# Altium schematic symbol library MB1355C_1.SCHLIB: 86 symbols
Pins are listed as number, name and electrical type; pins without a type are passive.

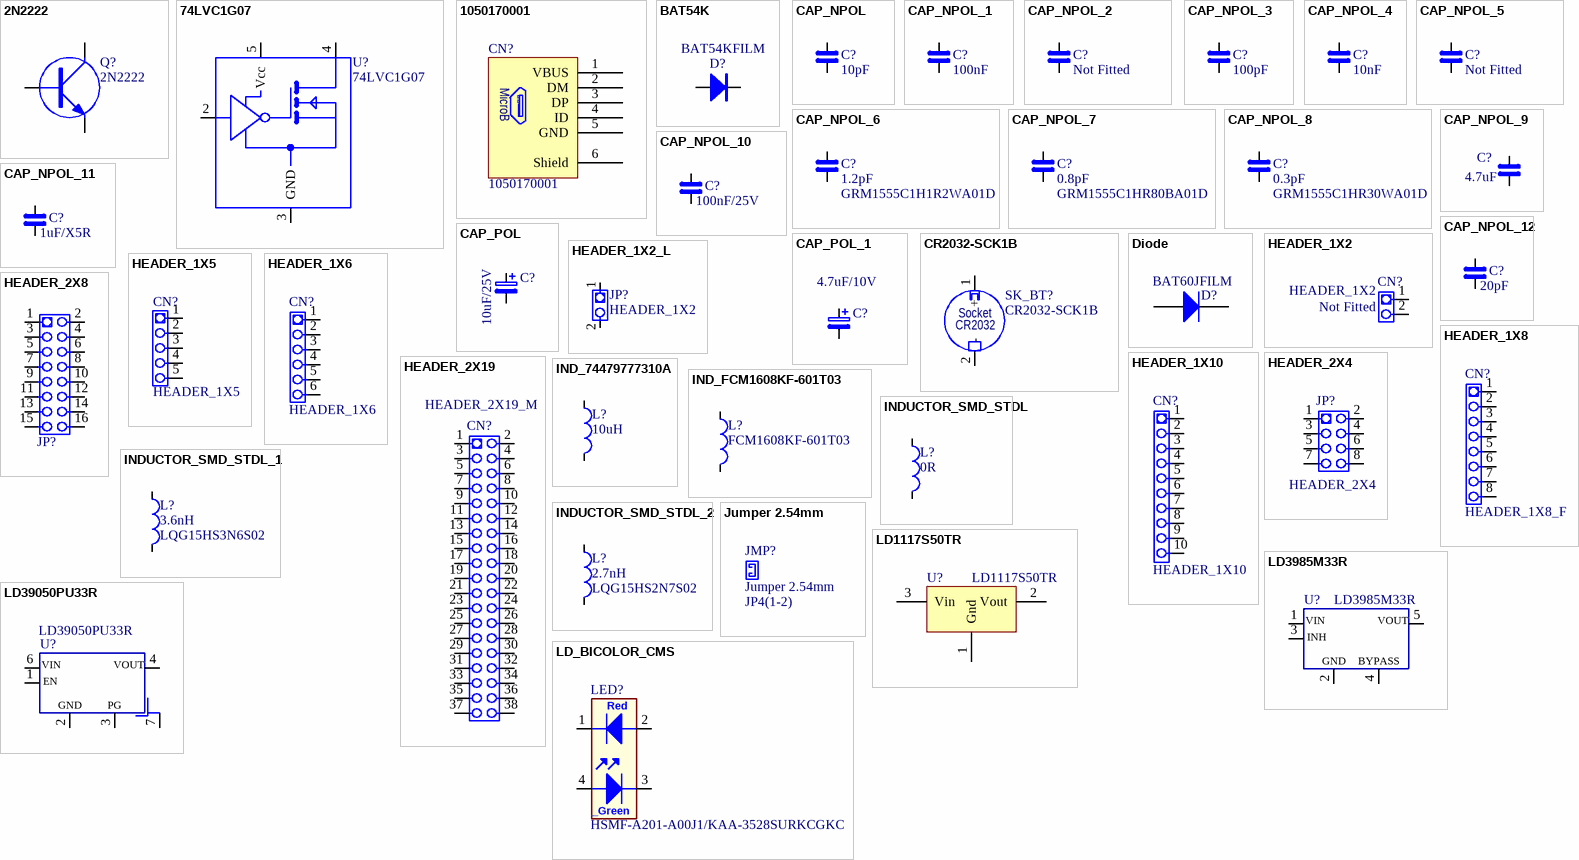
[diagram p0: symbols 2N2222 to LD_BICOLOR_CMS]

## 2N2222
designator Q?
2N2222_SOT23
footprint SOT23-3
pins: 1 B, 2 E, 3 C

## 74LVC1G07
designator U?
footprint SOT353-1 (SOT353-1 5 pins package)
pins: 2 A, 3 GND, 4 Y, 5 Vcc

## 1050170001
designator CN?
USB-MICRO-B, 1050170001, SMT, MOLEX; Fitted: YES; Ordered_By: Subcon; ECCN_US/EU: n/a; Manuf_1: MOLEX; Manuf_Part_1: 1050170001; Distrib: DIGIKEY; Value: 1050170001; Order_Code: *
footprint USBMICROB_MOLEX_105017-0001_H2P90
pins: 1 VBUS, 2 DM, 3 DP, 4 ID, 5 GND, 6 Shield
text: MicroB

## BAT54K
designator D?, comment BAT54KFILM
Schottky Diode
footprint SOD523
pins: A, K

## CAP_NPOL
designator C?, comment 10pF
Capacitor_not polarized
footprint CAP_RAD_5.08_2.5x7 (Radial Capacitor 2steps(5.08mm) 2.5mm x 7mm)
footprint CAP_RAD_2.54_1.5x4.5 (Radial Capacitor 1steps(2.54mm) 1.5mm x 4.5mm)
footprint 0402_CAP_NPOL (Capacitor FootPrint 0402)
footprint 0603_CAP_NPOL (Capacitor FootPrint 0603)
footprint 0805_CAP_NPOL (Capacitor FootPrint 0805)
footprint 1206_CAP_NPOL (Capacitor FootPrint 1206)
pins: 1, 2

## CAP_NPOL_1
designator C?, comment 100nF
Capacitor_not polarized
footprint CAP_RAD_5.08_2.5x7 (Radial Capacitor 2steps(5.08mm) 2.5mm x 7mm)
footprint CAP_RAD_2.54_1.5x4.5 (Radial Capacitor 1steps(2.54mm) 1.5mm x 4.5mm)
footprint 0402_CAP_NPOL (Capacitor FootPrint 0402)
footprint 0603_CAP_NPOL (Capacitor FootPrint 0603)
footprint 0805_CAP_NPOL (Capacitor FootPrint 0805)
footprint 1206_CAP_NPOL (Capacitor FootPrint 1206)
pins: 1, 2

## CAP_NPOL_2
designator C?, comment Fitted: Not Fitted  (hidden comment: TBD)
Capacitor_not polarized
footprint CAP_RAD_5.08_2.5x7 (Radial Capacitor 2steps(5.08mm) 2.5mm x 7mm)
footprint CAP_RAD_2.54_1.5x4.5 (Radial Capacitor 1steps(2.54mm) 1.5mm x 4.5mm)
footprint 0402_CAP_NPOL (Capacitor FootPrint 0402)
footprint 0603_CAP_NPOL (Capacitor FootPrint 0603)
footprint 0805_CAP_NPOL (Capacitor FootPrint 0805)
footprint 1206_CAP_NPOL (Capacitor FootPrint 1206)
pins: 1, 2

## CAP_NPOL_3
designator C?, comment 100pF
Capacitor_not polarized
footprint CAP_RAD_5.08_2.5x7 (Radial Capacitor 2steps(5.08mm) 2.5mm x 7mm)
footprint CAP_RAD_2.54_1.5x4.5 (Radial Capacitor 1steps(2.54mm) 1.5mm x 4.5mm)
footprint 0402_CAP_NPOL (Capacitor FootPrint 0402)
footprint 0603_CAP_NPOL (Capacitor FootPrint 0603)
footprint 0805_CAP_NPOL (Capacitor FootPrint 0805)
footprint 1206_CAP_NPOL (Capacitor FootPrint 1206)
pins: 1, 2

## CAP_NPOL_4
designator C?, comment 10nF
Capacitor_not polarized; Ref: Murata GRM155R71H103KA88
footprint CAP_RAD_5.08_2.5x7 (Radial Capacitor 2steps(5.08mm) 2.5mm x 7mm)
footprint CAP_RAD_2.54_1.5x4.5 (Radial Capacitor 1steps(2.54mm) 1.5mm x 4.5mm)
footprint 0402_CAP_NPOL (Capacitor FootPrint 0402)
footprint 0603_CAP_NPOL (Capacitor FootPrint 0603)
footprint 0805_CAP_NPOL (Capacitor FootPrint 0805)
footprint 1206_CAP_NPOL (Capacitor FootPrint 1206)
pins: 1, 2

## CAP_NPOL_5
designator C?  Fitted: Not Fitted
Capacitor_not polarized
footprint CAP_RAD_5.08_2.5x7 (Radial Capacitor 2steps(5.08mm) 2.5mm x 7mm)
footprint CAP_RAD_2.54_1.5x4.5 (Radial Capacitor 1steps(2.54mm) 1.5mm x 4.5mm)
footprint 0402_CAP_NPOL (Capacitor FootPrint 0402)
footprint 0603_CAP_NPOL (Capacitor FootPrint 0603)
footprint 0805_CAP_NPOL (Capacitor FootPrint 0805)
footprint 1206_CAP_NPOL (Capacitor FootPrint 1206)
pins: 1, 2

## CAP_NPOL_6
designator C?, comment 1.2pF  Ref: GRM1555C1H1R2WA01D
Capacitor_not polarized; Fitted: Fitted
footprint CAP_RAD_5.08_2.5x7 (Radial Capacitor 2steps(5.08mm) 2.5mm x 7mm)
footprint CAP_RAD_2.54_1.5x4.5 (Radial Capacitor 1steps(2.54mm) 1.5mm x 4.5mm)
footprint 0402_CAP_NPOL (Capacitor FootPrint 0402)
footprint 0603_CAP_NPOL (Capacitor FootPrint 0603)
footprint 0805_CAP_NPOL (Capacitor FootPrint 0805)
footprint 1206_CAP_NPOL (Capacitor FootPrint 1206)
pins: 1, 2

## CAP_NPOL_7
designator C?, comment 0.8pF  REF: GRM1555C1HR80BA01D
Capacitor_not polarized
footprint CAP_RAD_5.08_2.5x7 (Radial Capacitor 2steps(5.08mm) 2.5mm x 7mm)
footprint CAP_RAD_2.54_1.5x4.5 (Radial Capacitor 1steps(2.54mm) 1.5mm x 4.5mm)
footprint 0402_CAP_NPOL (Capacitor FootPrint 0402)
footprint 0603_CAP_NPOL (Capacitor FootPrint 0603)
footprint 0805_CAP_NPOL (Capacitor FootPrint 0805)
footprint 1206_CAP_NPOL (Capacitor FootPrint 1206)
pins: 1, 2

## CAP_NPOL_8
designator C?, comment 0.3pF  REF: GRM1555C1HR30WA01D
Capacitor_not polarized
footprint CAP_RAD_5.08_2.5x7 (Radial Capacitor 2steps(5.08mm) 2.5mm x 7mm)
footprint CAP_RAD_2.54_1.5x4.5 (Radial Capacitor 1steps(2.54mm) 1.5mm x 4.5mm)
footprint 0402_CAP_NPOL (Capacitor FootPrint 0402)
footprint 0603_CAP_NPOL (Capacitor FootPrint 0603)
footprint 0805_CAP_NPOL (Capacitor FootPrint 0805)
footprint 1206_CAP_NPOL (Capacitor FootPrint 1206)
pins: 1, 2

## CAP_NPOL_9
designator C?, comment 4.7uF
Capacitor_not polarized
footprint CAP_RAD_5.08_2.5x7 (Radial Capacitor 2steps(5.08mm) 2.5mm x 7mm)
footprint CAP_RAD_2.54_1.5x4.5 (Radial Capacitor 1steps(2.54mm) 1.5mm x 4.5mm)
footprint 0402_CAP_NPOL (Capacitor FootPrint 0402)
footprint 0603_CAP_NPOL (Capacitor FootPrint 0603)
footprint 0805_CAP_NPOL (Capacitor FootPrint 0805)
footprint 1206_CAP_NPOL (Capacitor FootPrint 1206)
pins: 1, 2

## CAP_NPOL_10
designator C?, comment 100nF/25V
Capacitor_not polarized
footprint CAP_RAD_5.08_2.5x7 (Radial Capacitor 2steps(5.08mm) 2.5mm x 7mm)
footprint CAP_RAD_2.54_1.5x4.5 (Radial Capacitor 1steps(2.54mm) 1.5mm x 4.5mm)
footprint 0402_CAP_NPOL (Capacitor FootPrint 0402)
footprint 0603_CAP_NPOL (Capacitor FootPrint 0603)
footprint 0805_CAP_NPOL (Capacitor FootPrint 0805)
footprint 1206_CAP_NPOL (Capacitor FootPrint 1206)
pins: 1, 2

## CAP_NPOL_11
designator C?, comment 1uF/X5R
Capacitor_not polarized
footprint CAP_RAD_5.08_2.5x7 (Radial Capacitor 2steps(5.08mm) 2.5mm x 7mm)
footprint CAP_RAD_2.54_1.5x4.5 (Radial Capacitor 1steps(2.54mm) 1.5mm x 4.5mm)
footprint 0402_CAP_NPOL (Capacitor FootPrint 0402)
footprint 0603_CAP_NPOL (Capacitor FootPrint 0603)
footprint 0805_CAP_NPOL (Capacitor FootPrint 0805)
footprint 1206_CAP_NPOL (Capacitor FootPrint 1206)
pins: 1, 2

## CAP_NPOL_12
designator C?, comment 20pF
Capacitor_not polarized
footprint CAP_RAD_5.08_2.5x7 (Radial Capacitor 2steps(5.08mm) 2.5mm x 7mm)
footprint CAP_RAD_2.54_1.5x4.5 (Radial Capacitor 1steps(2.54mm) 1.5mm x 4.5mm)
footprint 0402_CAP_NPOL (Capacitor FootPrint 0402)
footprint 0603_CAP_NPOL (Capacitor FootPrint 0603)
footprint 0805_CAP_NPOL (Capacitor FootPrint 0805)
footprint 1206_CAP_NPOL (Capacitor FootPrint 1206)
pins: 1, 2

## CAP_POL
designator C?, comment 10uF/25V
Condensateur_polarise
footprint 1210_CAP_POL (Capacitor Polarized 1210)
pins: 1, 2

## CAP_POL_1
designator C?, comment 4.7uF/10V
Condensateur_polarise
footprint 1210_CAP_POL (Capacitor Polarized 1210)
pins: 1, 2

## CR2032-SCK1B
designator SK_BT?
footprint CR2032-SCK1
pins: 1 +, 2 -
text: Socket; CR2032

## Diode
designator D?, comment BAT60JFILM
Default Diode; Code - JEDEC: DO-214-AB; Ordered by: STM; ECCN_US/EU: EAR99/NEC; Published: 8-Jun-2000; Revision: July-2002: Re-released for DXP Platform.; Publisher: Altium Limited
footprint DSO-C2/X3.3 (DO-214-AB/SMC; 2 C-Bend Leads; Body 7.9 x 5.9 mm, inc. leads (LxW))
simulation model DIODE (Diode)
signal-integrity model Diode
footprint SOD-323
pins: 1 A, 2 K

## HEADER_1X2
designator CN?  Fitted: Not Fitted
footprint Header M 1x2x2.54 TH V (1x2x2.54 Header TH V Male)
footprint Header F 1x2x2.54 TH V (1x2x2.54 Header TH V Female)
footprint Header M/F 1x2x1.27 NF (1x2x1.27 Male or Female Not Fitted only Footprint)
footprint Header F 1x2x2.00 TH V (1x2x2.00 Header TH V Male height=5.5mm)
footprint Header F 1x2x2.00 TH V with Jumper (1x2x2.00 Header TH V Male height=5.5mm)
footprint Header NF 1x2x2.54 TH (1x2x2.54 Header TH Not Fitted)
pins: 1, 2

## HEADER_1X2_L
designator JP?, comment HEADER_1X2
footprint Header F 1x2x2.54 TH V (1x2x2.54 Header TH V Female)
footprint Header M 1x2x2.54 TH V (1x2x2.54 Header TH V Male)
footprint Header F 1x2x2.00 TH V (1x2x2.00 Header TH V Male height=5.5mm)
footprint Header F 1x2x2.00 TH V with Jumper (1x2x2.00 Header TH V Male height=5.5mm)
footprint Header NF 1x2x2.54 TH (1x2x2.54 Header TH Not Fitted)
pins: 1, 2

## HEADER_1X5
designator CN?
footprint Header F 1x5x2.54 TH V (1x5x2.54 Header TH V Female)
footprint Header M 1x5x2.54 TH V (1x5x2.54 Header TH V Male)
footprint Header F_Tulipe 1x5x2.54 TH V (1x5x2.54 Header TH V Female Tulipe)
footprint Header M/F 1x5x1.27 NF (1x5x1.27 Male or Female Not Fitted only Footprint)
footprint Header NF 1x5x2.54 TH (1x5x2.54 Header TH Not Fitted)
pins: 1, 2, 3, 4, 5

## HEADER_1X6
designator CN?
footprint Header F 1x6x2.54 TH V (1x6x2.54 Header TH V Female)
footprint Header M 1x6x2.54 TH V (1x6x2.54 Header TH V Male)
footprint Header NF 1x6x2.54 TH (1x6x2.54 Header TH Not Fitted)
footprint Header M 1x6x2.54 TH C (1x6x2.54 Header TH Male Coude)
pins: 1, 2, 3, 4, 5, 6

## HEADER_1X8
designator CN?, comment HEADER_1X8_F
Specific Function: Arduino Power
footprint Header F 1x8x2.54 TH V (1x8x2.54 Header TH V Female)
footprint Header M 1x8x2.54 TH V (1x8x2.54 Header TH V Male)
footprint Header M/F 1x8x1.27 NF (1x8x1.27 Male or Female Not Fitted only Footprint)
footprint Header M 1x8x1.27 TH V (1x8x1.27 Male TH Vertical  (Samtec TMS-107-01-L-S))
pins: 1, 2, 3, 4, 5, 6, 7, 8

## HEADER_1X10
designator CN?
footprint Header F 1x10x2.54 TH V (1x10x2.54 Header TH V Female)
footprint Header M 1x10x2.54 TH V (1x10x2.54 Header TH V Male)
footprint Header M/F 1x10x2.54 NF (1x10x2.54 Header Not Fitted)
pins: 1, 2, 3, 4, 5, 6, 7, 8, 9, 10

## HEADER_2X4
designator JP?
footprint Header F 2x4x2.54 TH V (2x4x2.54 Header TH V Female)
footprint Header M 2x4x2.54 TH V (2x4x2.54 Header TH V Male)
pins: 1, 2, 3, 4, 5, 6, 7, 8

## HEADER_2X8
designator JP?  (value not drawn)
footprint Header F 2x8x2.54 TH V (2x8x2.54 Header TH V Female)
footprint Header M 2x8x2.54 TH V (2x8x2.54 Header TH V Male)
pins: 1, 2, 3, 4, 5, 6, 7, 8, 9, 10, 11, 12, 13, 14, 15, 16

## HEADER_2X19
designator CN?, comment HEADER_2X19_M
Specific Function: Morpho CN7
footprint Header F 2x19x2.54 TH V (2x19x2.54 Header TH V Female)
footprint Header M 2x19x2.54 TH M_top + M_bottom (2x19x2.54 Header TH V MaleTop + MaleBottom (Morphos_Nucleo64))
pins: 1, 2, 3, 4, 5, 6, 7, 8, 9, 10, 11, 12, 13, 14, 15, 16, 17, 18, 19, 20, 21, 22, 23, 24, 25, 26, 27, 28, 29, 30, 31, 32, 33, 34, 35, 36, 37, 38

## IND_74479777310A
designator L?, comment 10uH
Coil Wurtz 10uH ref: 74479777310A
footprint 0805_COIL (Coil FootPrint 0805)
pins: 1, 2

## IND_FCM1608KF-601T03
designator L?, comment FCM1608KF-601T03
footprint 0603_COIL (Coil Footprint 0603)
pins: 1, 2

## INDUCTOR_SMD_STDL
designator L?, comment 0R
footprint 0402_COIL (Coil FootPrint 0402)
footprint 0603_COIL (Coil Footprint 0603)
footprint 0805_COIL (Coil FootPrint 0805)
footprint 1206_COIL (Coil FootPrint 1206)
pins: 1, 2

## INDUCTOR_SMD_STDL_1
designator L?, comment 3.6nH  Ref: LQG15HS3N6S02
footprint 0402_COIL (Coil FootPrint 0402)
footprint 0603_COIL (Coil Footprint 0603)
footprint 0805_COIL (Coil FootPrint 0805)
footprint 1206_COIL (Coil FootPrint 1206)
pins: 1, 2

## INDUCTOR_SMD_STDL_2
designator L?, comment 2.7nH  Ref: LQG15HS2N7S02
footprint 0402_COIL (Coil FootPrint 0402)
footprint 0603_COIL (Coil Footprint 0603)
footprint 0805_COIL (Coil FootPrint 0805)
footprint 1206_COIL (Coil FootPrint 1206)
pins: 1, 2

## Jumper 2.54mm
designator JMP?  default: JP4(1-2)
footprint Jumper 2.54mm BLACK (Jumper 2.54mm Black)

## LD1117S50TR
designator U?
IC REG LDO 5V 0.8A SOT223; Manuf_1: STM; ECCN_US/EU: EAR99/NEC; Ref St: 9176133; Fitted: YES; Manuf_Part_1: LD1117S50TR; Distrib: STM; Ordered_By: STM; Order_code: LD1117S50TR; Value: LD1117S50TR
footprint SOT223_SC73_A
footprint SOT223_SC73_B
pins: 1 Gnd, 2 Vout, 3 Vin

## LD3985M33R
designator U?
3.3V low drop voltage regulator; Manufacturer: STMicroelectronics; Isortie max: 550mA; V entrée max: 6V; Manufacturer P/N: LD3985M33R; Order code Farnell: *; V sortie Typ. V: 3.3V; Temperature Max: +125°C; Type: Fixed; Temperature Min: -40°C
footprint SOT23-5
pins: 1 VIN, 2 VSS, 3 CE, 4 BYPASS, 5 VOUT
text: INH; GND

## LD39050PU33R
designator U?
3.3V voltage regulator 500mA
footprint DFN6 3x3mm (DFN6 3x3mm heigh=0.8mm)
pins: 1 EN, 2 VSS, 3 PG, 4 VOUT, 6 VIN, 7
text: GND

## LD_BICOLOR_CMS
designator LED?, comment HSMF-A201-A00J1/KAA-3528SURKCGKC
Bicolor Led; Manuf_1: Avago Technologies; Manuf_2: kingbright; Manuf_Part_1: HSMF-A201-A00J1; Footprint: HSMF-A201; Manuf_Part_2: KAA-3528SURKCGKC
footprint HSMF-A201
pins: 1, 2, 3, 4
text: Red; _Green

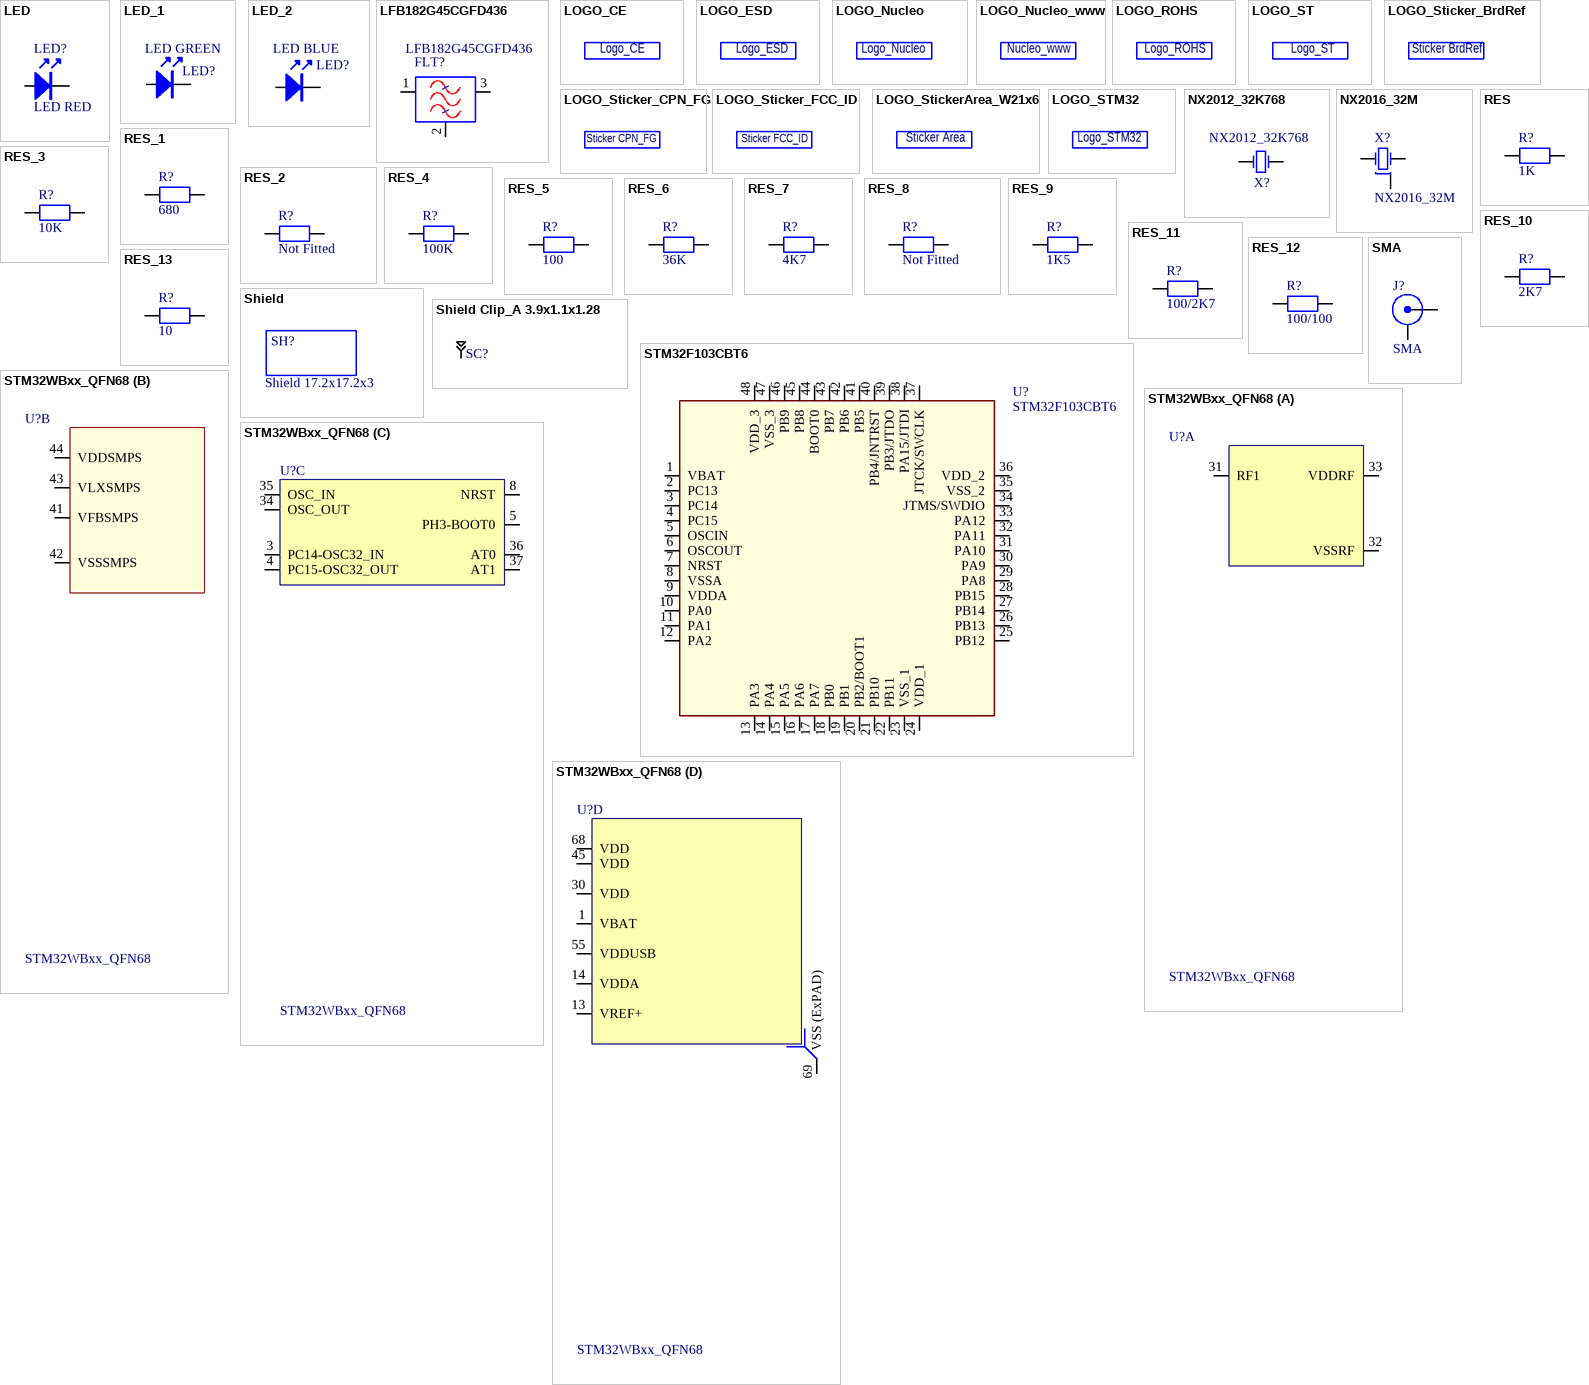
[diagram p1: symbols LED to STM32WBxx_QFN68]

## LED
designator LED?, comment LED RED
Light-Emitting Diode; Part Number A: *
footprint 0603_LED_RED (Resistor Footprint 0603)
footprint 0603_LED_GREEN (Resistor Footprint 0603)
footprint 0603_LED_Yellow (Resistor Footprint 0603)
footprint LED Blue 3mm TH V
footprint LED Green 3mm TH V
footprint LED Red 3mm TH V
footprint LED White 3mm TH V
footprint LED Yellow 3mm TH V
footprint 0603_LED_Blue (Resistor Footprint 0603)
pins: A, K

## LED_1
designator LED?, comment LED GREEN
Light-Emitting Diode; Part Number A: *
footprint 0603_LED_RED (Resistor Footprint 0603)
footprint 0603_LED_GREEN (Resistor Footprint 0603)
footprint 0603_LED_Yellow (Resistor Footprint 0603)
footprint LED Blue 3mm TH V
footprint LED Green 3mm TH V
footprint LED Red 3mm TH V
footprint LED White 3mm TH V
footprint LED Yellow 3mm TH V
footprint 0603_LED_Blue (Resistor Footprint 0603)
pins: A, K

## LED_2
designator LED?, comment LED BLUE
Light-Emitting Diode; Part Number A: *; Color: BLUE
footprint 0603_LED_RED (Resistor Footprint 0603)
footprint 0603_LED_GREEN (Resistor Footprint 0603)
footprint 0603_LED_Yellow (Resistor Footprint 0603)
footprint LED Blue 3mm TH V
footprint LED Green 3mm TH V
footprint LED Red 3mm TH V
footprint LED White 3mm TH V
footprint LED Yellow 3mm TH V
footprint 0603_LED_Blue (Resistor Footprint 0603)
pins: A, K

## LFB182G45CGFD436
designator FLT?
Band Pass Filter Murata LFB182G45CGFD436
footprint LFB182G45CGFD436 (Band Pass Filter Murata LFB182G45CGFD436)
pins: 1 I/O, 2 GND, 3 I/O

## LOGO_CE
designator Label_?  (value not drawn)
Silkscreen Only: YES
footprint LOGO CE
text: Logo_CE

## LOGO_ESD
designator Label_?  (value not drawn)
Silkscreen Only: YES
footprint LOGO DONTTOUCH
footprint LOGO ESD
footprint SYMBOL_ESD
text: Logo_ESD

## LOGO_Nucleo
designator Label_?  (value not drawn)
Silkscreen Only: YES
footprint LOGO_Nucleo (LOGO_Nucleo Top Overlay)
footprint NUCLEO_black 0.5cm
footprint NUCLEO_black 2cm
text: Logo_Nucleo

## LOGO_Nucleo_www
designator Label_?  (value not drawn)
footprint LOGO_Nucleo_www (Web Link for STM32 Nucleo Board)
text: Nucleo_www

## LOGO_ROHS
designator Label_?  (value not drawn)
Silkscreen Only: YES
footprint LOGO E TOPOVERLAY
footprint LOGO ROHS 1
footprint LOGO ROHS 2
footprint Logo ROHS Comp TOP
footprint LOGO ROHS COMP TOPOverlay
footprint SYMBOL_RoHS
footprint SYMBOL_RoHS_China
text: Logo_ROHS

## LOGO_ST
designator Label_?  (value not drawn)
Silkscreen Only: YES
footprint LOGO_ST_Size1
footprint LOGO_ST_Size2
footprint LOGO_ST_Size3
footprint Logo_ST_size4
footprint Logo_ST_size5
footprint ST_LOGO_10mm
footprint ST_LOGO_Size1
footprint ST_LOGO_Size2
footprint ST_LOGO_Size3
footprint ST_Logo_size4
footprint ST_Logo_size5
text: Logo_ST

## LOGO_Sticker_BrdRef
designator STICKER_?, comment Sticker_BrdRef_21x5  (value not drawn)
Sticker_BrdRef 21x5mm
footprint Sticker_BrdRef_21x5mm (Sticker_BrdRef_21x5mm White)
text: Sticker BrdRef

## LOGO_Sticker_CPN_FG
designator STICKER_?, comment Sticker_CPN_FG 16x5  (value not drawn)
Sticker for CPN_FG 16x5mm
footprint Sticker_CPN_FG 16x5mm (Sticker_CPN_FG 16x6mm White)
text: Sticker CPN_FG

## LOGO_Sticker_FCC_ID
designator STICKER_?, comment FCC_ID_Sticker_16x5  (value not drawn)
Sticker for FCC_ID 16x5mm
footprint Sticker_FCC_ID 16x5mm (Sticker_FCC_ID 16x5mm White)
text: Sticker FCC_ID

## LOGO_StickerArea_W21x6
designator Label_?  (value not drawn)
Silkscreen Only: YES
footprint LOGO_StickerArea_Border (Sticker Area reservation 22x6 mm Border only)
footprint LOGO_StickerArea_Fill (Sticker Area reservation 22x6 mm Fill Area)
text: Sticker Area

## LOGO_STM32
designator Label_?  (value not drawn)
Silkscreen Only: YES
footprint LOGO_STM32
text: Logo_STM32

## NX2012_32K768
designator X?
Crystal NDK 2.0x1.2mm  32.768 KHz; Manufacturer P/N: NX2012SA 32.768KHz  EXS00A-MU00389; Ref: NX2012SA 32.768KHz  EXS00A-MU00389  Référence interne NDK : X3037088; Manufacturer: NDK
footprint NX2012_2P
pins: 1 OSC1, 2 OSC2

## NX2016_32M
designator X?
Crystal NDK 2.0x1.6mm  32 MHz; Manufacturer P/N: NX2016SA 32 MHz EXS00A-CS06654; Ref: NX2016SA 32MHz  EXS00A-CS06654  Référence interne NDK : X5087283; Manufacturer: NDK
footprint NX2016_4P
pins: 1 OSC1, 2, 3 OSC2, 4

## RES
designator R?, comment 1K
Resistor
footprint 0603_RES (Resistor Footprint 0603)
footprint 0402_RES (Resistor FootPrint 0402)
pins: 1, 2

## RES_1
designator R?, comment 680
Resistor
footprint 0603_RES (Resistor Footprint 0603)
footprint 0402_RES (Resistor FootPrint 0402)
pins: 1, 2

## RES_2
designator R?, comment Fitted: Not Fitted  (hidden comment: 100K (not fitted))
Resistor
footprint 0603_RES (Resistor Footprint 0603)
footprint 0402_RES (Resistor FootPrint 0402)
pins: 1, 2

## RES_3
designator R?, comment 10K
Resistor
footprint 0603_RES (Resistor Footprint 0603)
footprint 0402_RES (Resistor FootPrint 0402)
pins: 1, 2

## RES_4
designator R?, comment 100K
Resistor
footprint 0603_RES (Resistor Footprint 0603)
footprint 0402_RES (Resistor FootPrint 0402)
pins: 1, 2

## RES_5
designator R?, comment 100
Resistor
footprint 0603_RES (Resistor Footprint 0603)
footprint 0402_RES (Resistor FootPrint 0402)
pins: 1, 2

## RES_6
designator R?, comment 36K
Resistor
footprint 0603_RES (Resistor Footprint 0603)
footprint 0402_RES (Resistor FootPrint 0402)
pins: 1, 2

## RES_7
designator R?, comment 4K7
Resistor
footprint 0603_RES (Resistor Footprint 0603)
footprint 0402_RES (Resistor FootPrint 0402)
pins: 1, 2

## RES_8
designator R?  Fitted: Not Fitted
Resistor
footprint 0603_RES (Resistor Footprint 0603)
footprint 0402_RES (Resistor FootPrint 0402)
pins: 1, 2

## RES_9
designator R?, comment 1K5
Resistor
footprint 0603_RES (Resistor Footprint 0603)
footprint 0402_RES (Resistor FootPrint 0402)
pins: 1, 2

## RES_10
designator R?, comment 2K7
Resistor
footprint 0603_RES (Resistor Footprint 0603)
footprint 0402_RES (Resistor FootPrint 0402)
pins: 1, 2

## RES_11
designator R?, comment 100/2K7
Resistor
footprint 0603_RES (Resistor Footprint 0603)
footprint 0402_RES (Resistor FootPrint 0402)
pins: 1, 2

## RES_12
designator R?, comment 100/100
Resistor
footprint 0603_RES (Resistor Footprint 0603)
footprint 0402_RES (Resistor FootPrint 0402)
pins: 1, 2

## RES_13
designator R?, comment 10
Resistor
footprint 0603_RES (Resistor Footprint 0603)
footprint 0402_RES (Resistor FootPrint 0402)
pins: 1, 2

## Shield
designator SH?, comment Shield 17.2x17.2x3
Shield
footprint Shield 17.2x17.2x3 (Metallic Shield 17.2x17.2mm height =3mm tickness=0.2mm)

## Shield Clip_A 3.9x1.1x1.28
designator SC?  (value not drawn)
Harwin S0951-46R
footprint Shield Clip_A 3.9x1.1x1.28 (Shield Clip 3.9x1.1x1.28 - Harwin S0951-46R - Full pad)
pins: 1

## SMA
designator J?
footprint SMA_COMBO_A_NF
footprint SMA_COMBO_B_NF
footprint SMA_NF
footprint SMA_T
footprint SMA_V
footprint SMA_T_6.35_NF
footprint SMA_T_9.52_NF
footprint SMA_T_9.52
pins: 1 X, 2 Y

## STM32F103CBT6
designator U?
Medium-density performance line ARM-based 32-bit MCU with 128KB Flash; Manuf_1: STM; ECCN_US/EU: 3A991A2/NEC; Fitted: YES; Manuf_Part_1: STM32F103CBT6; Distrib: STM; Order_Code: STM32F103CBT6; Ordered_By: STM; Value: STM32F103CBT6
footprint LQFP48_7X7_P050
pins: 1 VBAT, 2 PC13, 3 PC14, 4 PC15, 5 OSCIN, 6 OSCOUT, 7 NRST, 8 VSSA, 9 VDDA, 10 PA0, 11 PA1, 12 PA2, 13 PA3, 14 PA4, 15 PA5, 16 PA6, 17 PA7, 18 PB0, 19 PB1, 20 PB2/BOOT1, 21 PB10, 22 PB11, 23 VSS_1, 24 VDD_1, 25 PB12, 26 PB13, 27 PB14, 28 PB15, 29 PA8, 30 PA9, 31 PA10, 32 PA11, 33 PA12, 34 JTMS/SWDIO, 35 VSS_2, 36 VDD_2, 37 JTCK/SWCLK, 38 PA15/JTDI, 39 PB3/JTDO, 40 PB4/JNTRST, 41 PB5, 42 PB6, 43 PB7, 44 BOOT0, 45 PB8, 46 PB9, 47 VSS_3, 48 VDD_3

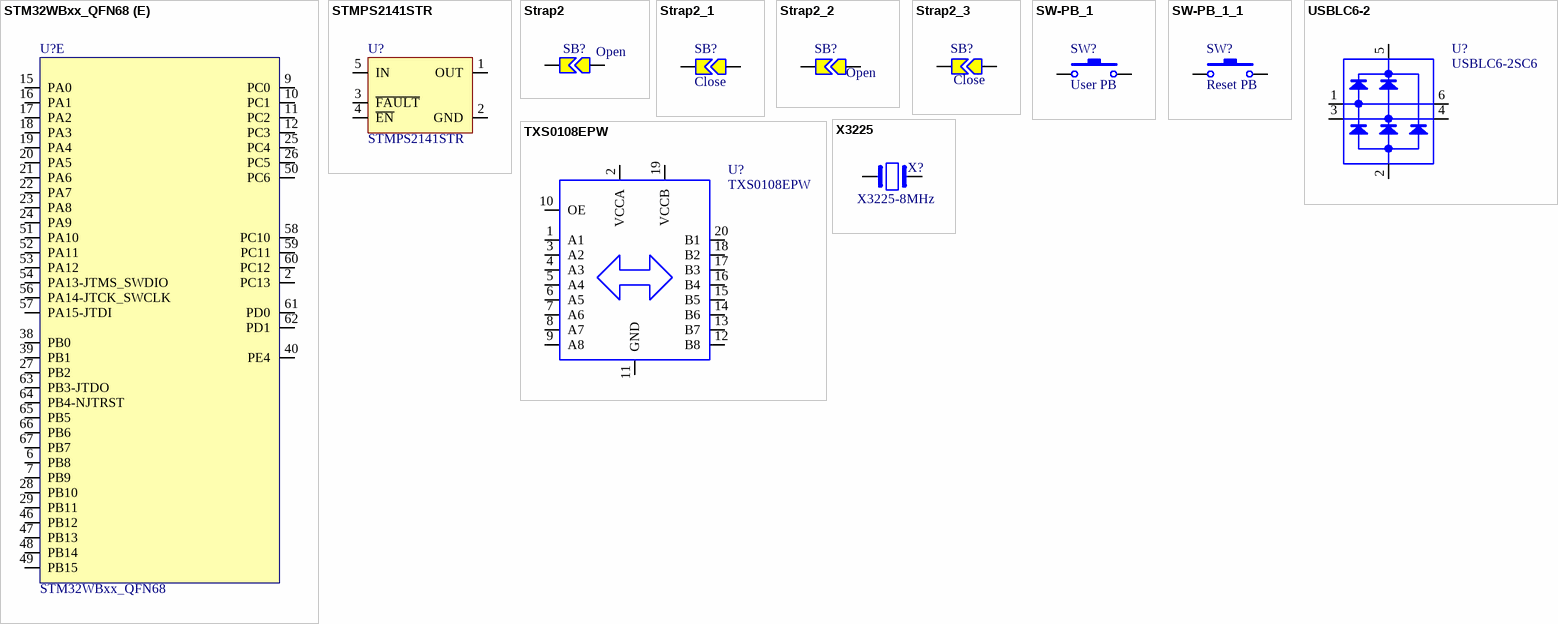
[diagram p2: symbols STM32WBxx_QFN68 to X3225]

## STM32WBxx_QFN68
designator U?
footprint VFQFPN68_8x8x0.1_p0.4
part A pins: 31 RF1, 32 VSSRF, 33 VDDRF
part B pins: 41 VFBSMPS, 42 VSSSMPS, 43 VLXSMPS, 44 VDDSMPS
part C pins: 3 PC14-OSC32_IN, 4 PC15-OSC32_OUT, 5 PH3-BOOT0, 8 NRST, 34 OSC_OUT, 35 OSC_IN, 36 AT0, 37 AT1
part D pins: 1 VBAT, 13 VREF+, 14 VDDA, 30 VDD, 45 VDD, 55 VDDUSB, 68 VDD, 69 VSS (ExPAD)
part E pins: 2 PC13, 6 PB8, 7 PB9, 9 PC0, 10 PC1, 11 PC2, 12 PC3, 15 PA0, 16 PA1, 17 PA2, 18 PA3, 19 PA4, 20 PA5, 21 PA6, 22 PA7, 23 PA8, 24 PA9, 25 PC4, 26 PC5, 27 PB2, 28 PB10, 29 PB11, 38 PB0, 39 PB1, 40 PE4, 46 PB12, 47 PB13, 48 PB14, 49 PB15, 50 PC6, 51 PA10, 52 PA11, 53 PA12, 54 PA13-JTMS_SWDIO, 56 PA14-JTCK_SWCLK, 57 PA15-JTDI, 58 PC10, 59 PC11, 60 PC12, 61 PD0, 62 PD1, 63 PB3-JTDO, 64 PB4-NJTRST, 65 PB5, 66 PB6, 67 PB7

## STMPS2141STR
designator U?
Enhanced single channel power switches; Manuf_1: STM; Provided: ST; ECCN_US/EU: EAR99/NEC; Ref St: 9159003; Order: STMPS2141STR; Manuf_Part_1: STMPS2141STR; Distrib: ST; Ordered by: ST
footprint SOT23-5
pins: 1 OUT, 2 GND, 3 ~{FAULT}, 4 ~{EN}, 5 IN

## Strap2
designator SB?, comment Open
Solder Jumper; Solder: YES; Published: 24-Mar-1999; Revision: July-2002: Re-released for DXP Platform.; Publisher: Altium Limited
footprint SB
footprint SB-tiny
footprint SB-LARGE
pins: 1, 2

## Strap2_1
designator SB?, comment Close
Solder Jumper; Solder: YES; Published: 24-Mar-1999; Revision: July-2002: Re-released for DXP Platform.; Publisher: Altium Limited
footprint SB
footprint SB-tiny
footprint SB-LARGE
pins: 1, 2

## Strap2_2
designator SB?, comment Open
Solder Jumper; Solder: YES; Published: 24-Mar-1999; Revision: July-2002: Re-released for DXP Platform.; Publisher: Altium Limited
footprint SB
footprint SB-tiny
pins: 1, 2

## Strap2_3
designator SB?, comment Close
Solder Jumper; Solder: YES; Published: 24-Mar-1999; Revision: July-2002: Re-released for DXP Platform.; Publisher: Altium Limited
footprint SB
footprint SB-tiny
pins: 1, 2

## SW-PB_1
designator SW?, comment User PB
Push-button SMD; Order code RS: 102-412
footprint SW-PB SMD KMR2 (Footprint not found)
pins: 1, 2

## SW-PB_1_1
designator SW?, comment Reset PB
Push-button SMD; Order code RS: 102-412
footprint SW-PB SMD KMR2 (Footprint not found)
pins: 1, 2

## TXS0108EPW
designator U?
TXS0108E Bi-directional Level Shifter TSSOP20
footprint TSSOP20
pins: 1 A1, 2 VCCA, 3 A2, 4 A3, 5 A4, 6 A5, 7 A6, 8 A7, 9 A8, 10 OE, 11 GND, 12 B8, 13 B7, 14 B6, 15 B5, 16 B4, 17 B3, 18 B2, 19 VCCB, 20 B1

## USBLC6-2
designator U?, comment USBLC6-2SC6
footprint SOT23-6
pins: 1, 2, 3, 4, 5, 6

## X3225
designator X?, comment X3225-8MHz
Crystal 8MHz
footprint X3225
pins: 1, 3